# Altium schematic symbol library Pannel.SchLib: 9 symbols
Pins are listed as number, name and electrical type; pins without a type are passive.

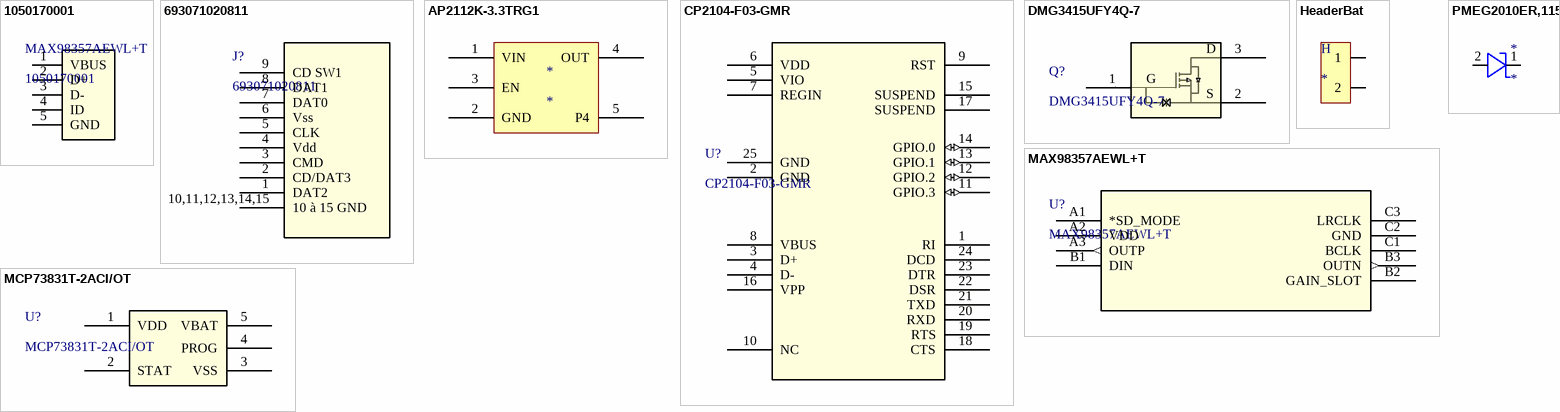
[diagram p0: symbols 1050170001 to PMEG2010ER,115]

## 1050170001
designator MAX98357AEWL+T
No Description Available; Mfr_Name: Molex Connector Corporation; Copyright: Copyright (C) 2023 Ultra Librarian. All rights reserved.; Manufacturer_Part_Number: 1050170001; RefDes: RefDes; Type: DEV
footprint CONN_1050170001_MOL
pins: 1 VBUS, 2 D+, 3 D-, 4 ID, 5 GND

## 693071020811
designator J?
No Description Available; Mfr_Name: Wurth Electronics; Copyright: Copyright (C) 2023 Ultra Librarian. All rights reserved.; Manufacturer_Part_Number: 693071020811; RefDes: RefDes; Type: DEV
footprint CONN9_020811_WRE
pins: 1 DAT2, 2 CD/DAT3, 3 CMD, 4 Vdd, 5 CLK, 6 Vss, 7 DAT0, 8 DAT1, 9 CD SW1, 10,11,12,13,14,15 10 à 15 GND

## AP2112K-3.3TRG1
designator *
pins: 1 VIN, 2 GND, 3 EN, 4 OUT, 5 P4

## CP2104-F03-GMR
designator U?
No Description Available; Mfr_Name: Silicon Labs; Copyright: Copyright (C) 2023 Ultra Librarian. All rights reserved.; Manufacturer_Part_Number: CP2104-F03-GMR; RefDes: RefDes; Type: DEV
footprint QFN_F03-GMR_SIL
pins: 1 RI, 2 GND, 3 D+, 4 D-, 5 VIO, 6 VDD (power), 7 REGIN, 8 VBUS, 9 RST, 10 NC, 11 GPIO.3 (io), 12 GPIO.2 (io), 13 GPIO.1 (io), 14 GPIO.0 (io), 15 SUSPEND, 16 VPP (power), 17 SUSPEND, 18 CTS, 19 RTS, 20 RXD, 21 TXD, 22 DSR, 23 DTR, 24 DCD, 25 GND

## DMG3415UFY4Q-7
designator Q?
No Description Available; Mfr_Name: Diodes Inc; Type: DEV; Copyright: Copyright (C) 2023 Ultra Librarian. All rights reserved.; Manufacturer_Part_Number: DMG3415UFY4Q-7; RefDes: RefDes
footprint TRANS_DMG3415UFY4Q-7_DIO
pins: 1 G, 2 S, 3 D

## HeaderBat
designator H
footprint CONN_S2B-PH-SM4-TB_JST
pins: 1, 2

## MAX98357AEWL+T
designator U?
No Description Available; Mfr_Name: Analog Devices Inc; Copyright: Copyright (C) 2023 Ultra Librarian. All rights reserved.; Manufacturer_Part_Number: MAX98357AEWL+T; RefDes: RefDes; Type: DEV
footprint 21-0896B_9_MXM
pins: A1 *SD_MODE, A2 VDD (power), A3 OUTP (out), B1 DIN, B2 GAIN_SLOT, B3 OUTN (out), C1 BCLK, C2 GND, C3 LRCLK

## MCP73831T-2ACI/OT
designator U?
No Description Available; Mfr_Name: Honeywell; Copyright: Copyright (C) 2023 Ultra Librarian. All rights reserved.; Manufacturer_Part_Number: MCP73831T-2ACI/OT; RefDes: RefDes; Type: DEV
footprint SOT23_MCP73831T-2ACI/OT_HNW
pins: 1 VDD, 2 STAT, 3 VSS, 4 PROG, 5 VBAT

## PMEG2010ER,115
designator *
footprint DIODE_PMEG2010ER,115_NEX
pins: 1 K, 2 A